# Altium footprint library Generic USB.PcbLib: 2 footprints
Each footprint in its own frame and in the unit in brackets; x right, y up, seen from the top. Pads: shape width x height; smd on the part's side, far side on the other; paste and mask are expansions set on the pad; w line width, h text height; cw(c..) or ccw(c..) is an arc to the next point about the centre after c.
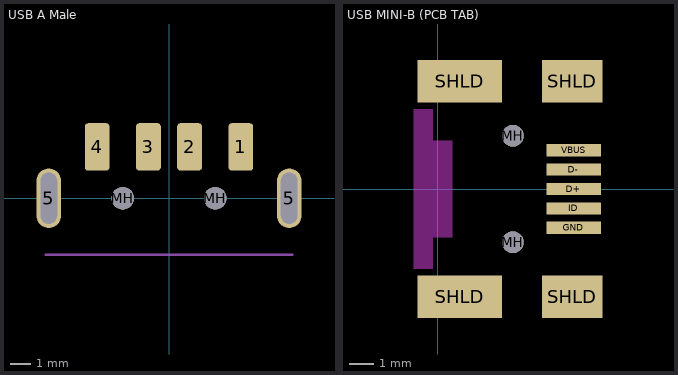
[diagram p0: the footprints below, top view; thin cyan lines are the x and y axes]

## USB A Male [mm] "Fits Molex & 4UCON 19465   USB A TYPE DENT TYPE SMT 90° MALE METAL WITHOUT KINK BLACK INSULATOR METAL SHELL"
height 4.6
pads (8):
  rrect25% 1.2x2.3 smd: 1(3.5,2.5) 2(1,2.5) 3(-1,2.5) 4(-3.5,2.5)
  rrect99% 1.2x2.9 hole 0.8 slot 2.5 at 90 deg: 5(-5.85,0) 5(5.85,0)
  round 1.1 hole 1.1 unplated: MH(-2.25,0) MH(2.25,0)
Mechanical 1:
  lines w0.102: -6,-2.75 6,-2.75
3D body: height 3.05, standoff -1.75, extent -6,-17.8 6,3

## USB MINI-B (PCB TAB) [mm] "USB Mini B with PCB TAB (Fits Kobiconn, Tyco, Molex)"
height 3.95
pads (11):
  rect 2.25x0.5 smd paste-0.075 mask+0.025: D+(5.625,0) D-(5.625,0.8) GND(5.625,-1.6) ID(5.625,-0.8) VBUS(5.625,1.6)
  round 0.9 hole 0.9 unplated mask+0.025: MH(3.1,-2.2) MH(3.1,2.2)
  rect 3.5x1.75 smd paste-0.075 mask+0: SHLD(0.9,-4.45) SHLD(0.9,4.45)
  rect 2.5x1.75 smd paste-0.075 mask+0: SHLD(5.55,-4.45) SHLD(5.55,4.45)
Top Layer keep-out:
  rectangle: -1,-2 0.6,2
  rectangle: -1,-3.3 -0.2,3.3
3D body: height 3.93, standoff -1.01, extent -2.8,-4.95 6.2,4.95